# Altium schematic symbol library DC-DC Converters.SchLib: 155 symbols
Pins are listed as number, name and electrical type; pins without a type are passive.

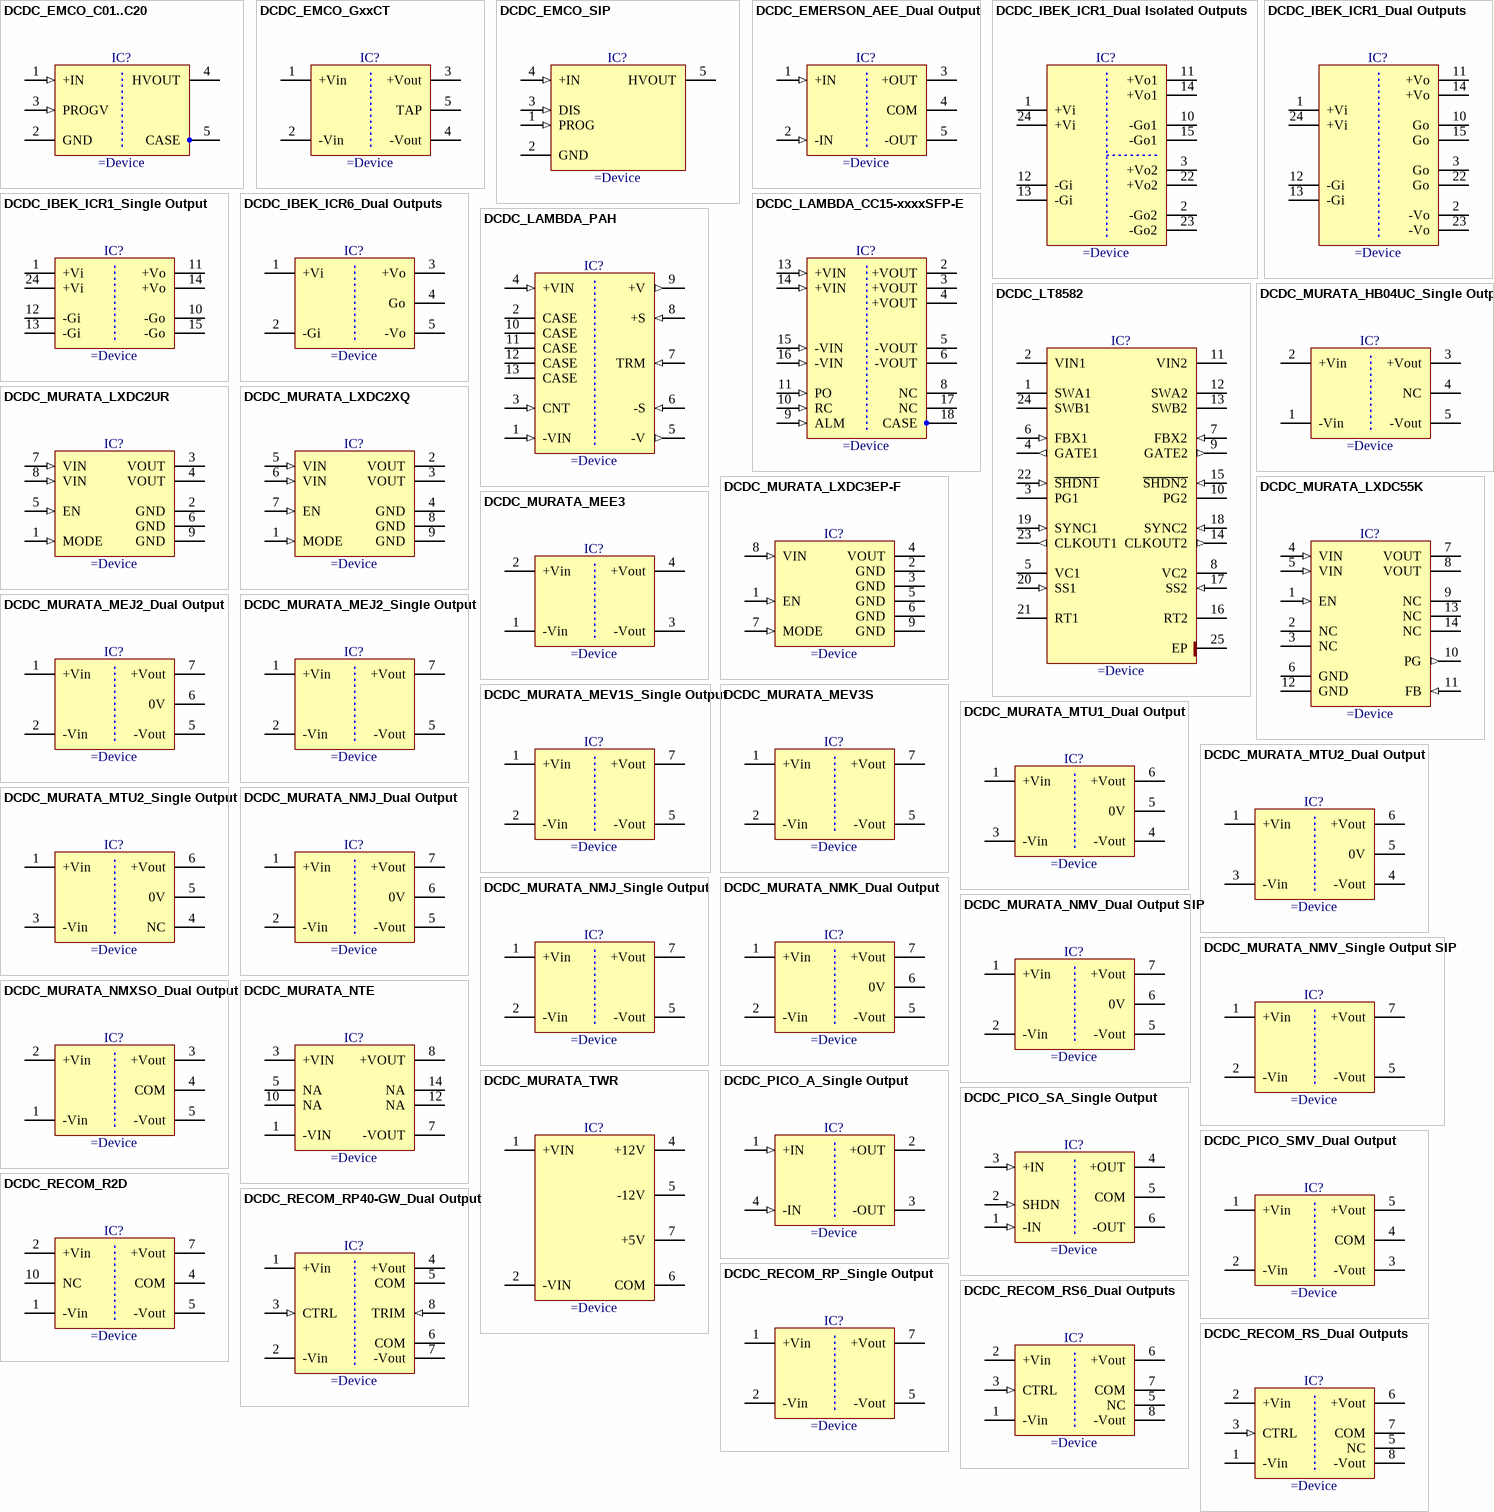
[diagram p0: symbols DCDC_EMCO_C01..C20 to DCDC_RECOM_RS_Dual Outputs]

## DCDC_EMCO_C01..C20
designator IC?
C Series, High Voltage DC-DC Converter
pins: 1 +IN (in), 2 GND (power), 3 PROGV (in), 4 HVOUT (power), 5 CASE (power)

## DCDC_EMCO_GxxCT
designator IC?
EMCO, G Series, Single Output DCDC Converter
pins: 1 +Vin (power), 2 -Vin (power), 3 +Vout (power), 4 -Vout (power), 5 TAP (power)

## DCDC_EMCO_SIP
designator IC?
SIP Series, Regulated, Low Profile High Voltage DC-DC Converter
pins: 1 PROG (in), 2 GND (power), 3 DIS (in), 4 +IN (in), 5 HVOUT (power)

## DCDC_EMERSON_AEE_Dual Output
designator IC?
EMERSON AEE 15W Serie, Dual Output DCDC Converter
pins: 1 +IN (in), 2 -IN (in), 3 +OUT (power), 4 COM (power), 5 -OUT (power)

## DCDC_IBEK_ICR1_Dual Isolated Outputs
designator IC?
IBEK, ICR1 Serie, Dual Isolated Outputs DCDC Converter
pins: 1 +Vi (power), 2 -Go2 (power), 3 +Vo2 (power), 10 -Go1 (power), 11 +Vo1 (power), 12 -Gi (power), 13 -Gi (power), 14 +Vo1 (power), 15 -Go1 (power), 22 +Vo2 (power), 23 -Go2 (power), 24 +Vi (power)

## DCDC_IBEK_ICR1_Dual Outputs
designator IC?
IBEK, ICR1 Serie, Dual Outputs DCDC Converter
pins: 1 +Vi (power), 2 -Vo (power), 3 Go (power), 10 Go (power), 11 +Vo (power), 12 -Gi (power), 13 -Gi (power), 14 +Vo (power), 15 Go (power), 22 Go (power), 23 -Vo (power), 24 +Vi (power)

## DCDC_IBEK_ICR1_Single Output
designator IC?
IBEK, ICR1 Serie, Single Output DCDC Converter
pins: 1 +Vi (power), 10 -Go (power), 11 +Vo (power), 12 -Gi (power), 13 -Gi (power), 14 +Vo (power), 15 -Go (power), 24 +Vi (power)

## DCDC_IBEK_ICR6_Dual Outputs
designator IC?
IBEK, ICR6 Serie, Dual Outputs DCDC Converter
pins: 1 +Vi (power), 2 -Gi (power), 3 +Vo (power), 4 Go (power), 5 -Vo (power)

## DCDC_LAMBDA_CC15-xxxxSFP-E
designator IC?
LAMBDA , CCP-E Series, 24V Input, 15W DCDC Converter
pins: 2 +VOUT (power) "Baseplate Terminal", 3 +VOUT (power) "On / Off Control terminal", 4 +VOUT (power) "Positive Input Terminal", 5 -VOUT (power) "Negative Output Terminal", 6 -VOUT (power) "Negative Remote sense", 8 NC "Positive Remote sense", 9 ALM (in) "Positive Output Terminal", 10 RC (in) "Baseplate Terminal", 11 PO (in) "Baseplate Terminal", 13 +VIN (in) "Baseplate Terminal", 14 +VIN (in) "Positive Output Terminal", 15 -VIN (in) "Positive Output Terminal", 16 -VIN (in) "Positive Output Terminal", 17 NC "Positive Output Terminal", 18 CASE (power) "Positive Output Terminal"

## DCDC_LAMBDA_PAH
designator IC?
LAMBDA , PAH Serie, 50W To 200W, 48V Input Half Brick DCDC Converter
pins: 1 -VIN (in) "Negative Input Terminal", 2 CASE "Baseplate Terminal", 3 CNT (in) "On / Off Control terminal", 4 +VIN (in) "Positive Input Terminal", 5 -V (out) "Negative Output Terminal", 6 -S (in) "Negative Remote sense", 7 TRM (in) "Output adjustment Trim pin", 8 +S (in) "Positive Remote sense", 9 +V (out) "Positive Output Terminal", 10 CASE "Baseplate Terminal", 11 CASE "Baseplate Terminal", 12 CASE "Baseplate Terminal", 13 CASE "Baseplate Terminal"

## DCDC_LT8582
designator IC?
Dual 3A Boost/Inverting/SEPIC DC/DC Converter with Fault Protection
pins: 1 SWA1 (power) "Master Switch Pins. This is the collector of the internal master NPN power switch for each channel. SWA is designed to handle a peak collector current of 1.7A (minimum). Minimize the metal trace area connected to this pin to (See Datasheet)", 2 VIN1 (power) "Input Supply Pins. Must be locally bypassed.", 3 PG1 (oc) "Power Good Indication Pins. This active high pin indicates that the FBX pin voltage for the corresponding channel is within 4% of its regulation voltage (VFBX > 1.15V for noninverting outputs or VFBX < 65mV for inverting (See Datasheet)", 4 GATE1 (out) "PMOS Gate Drive Pins. The GATE pin is a pull-down current source and can be used to drive the gate of an external PMOS transistor for output short-circuit protection or output disconnect. The GATE pin current increases (See Datasheet)", 5 VC1 "Error Amplifier Output Pins. Tie external compensation network to these pins.", 6 FBX1 (in) "Positive and Negative Feedback Pins. For an inverting or noninverting output converter, tie a resistor from the FBX pin to VOUT according to the following equations", 7 FBX2 (in) "Positive and Negative Feedback Pins. For an inverting or noninverting output converter, tie a resistor from the FBX pin to VOUT according to the following equations", 8 VC2 "Error Amplifier Output Pins. Tie external compensation network to these pins.", 9 GATE2 (out) "PMOS Gate Drive Pins. The GATE pin is a pull-down current source and can be used to drive the gate of an external PMOS transistor for output short-circuit protection or output disconnect. The GATE pin current increases (See Datasheet)", 10 PG2 (oc) "Power Good Indication Pins. This active high pin indicates that the FBX pin voltage for the corresponding channel is within 4% of its regulation voltage (VFBX > 1.15V for noninverting outputs or VFBX < 65mV for inverting (See Datasheet)", 11 VIN2 (power) "Input Supply Pins. Must be locally bypassed.", 12 SWA2 (power) "Master Switch Pins. This is the collector of the internal master NPN power switch for each channel. SWA is designed to handle a peak collector current of 1.7A (minimum). Minimize the metal trace area connected to this pin to (See Datasheet)", 13 SWB2 (power) "Slave Switch Pins. This is the collector of the internal slave NPN power switch for each channel. SWB is designed to handle a peak collector current of 1.3A (minimum). Minimize the metal trace area connected to this pin to (See Datasheet)", 14 CLKOUT2 (out) "Clock Output Pins. Use these pins to synchronize one or more other ICs to either channel of the LT8582. Can also be used to synchronize channel 1 or channel 2 of the LT8582 with the other channel of the LT8582. This pin (See Datasheet)", 15 ~{SHDN2} (in) "Shutdown Pins. In conjunction with the UVLO (undervoltage lockout) circuit, these pins are used to enable/disable the channel and restart the soft-start sequence. Drive below 0.3V to disable the channel with very low (See Datasheet)", 16 RT2 "Timing Resistor Pins. Adjusts the switching frequency of the corresponding channel. Place a resistor from these pins to ground to set the frequency to a fixed free running level. Do not float these pins.", 17 SS2 (in) "Soft-Start Pins. Place a softstart capacitor here. Upon start-up, the SS pins will be charged by a (nominally) 250k resistor to ~2.1V. During a fault, the SS pin for the corresponding channel will be slowly charged up and (See Datasheet)", 18 SYNC2 (in) "Use to synchronize the switching frequency of a channel to an outside clock. The high voltage level of the clock must exceed 1.3V and the low level must be less than 0.4V. Drive these pins to less than 0.4V to revert to the (See Datasheet)", 19 SYNC1 (in) "Use to synchronize the switching frequency of a channel to an outside clock. The high voltage level of the clock must exceed 1.3V and the low level must be less than 0.4V. Drive these pins to less than 0.4V to revert to the (See Datasheet)", 20 SS1 (in) "Soft-Start Pins. Place a softstart capacitor here. Upon start-up, the SS pins will be charged by a (nominally) 250k resistor to ~2.1V. During a fault, the SS pin for the corresponding channel will be slowly charged up and (See Datasheet)", 21 RT1 "Timing Resistor Pins. Adjusts the switching frequency of the corresponding channel. Place a resistor from these pins to ground to set the frequency to a fixed free running level. Do not float these pins.", 22 ~{SHDN1} (in) "Shutdown Pins. In conjunction with the UVLO (undervoltage lockout) circuit, these pins are used to enable/disable the channel and restart the soft-start sequence. Drive below 0.3V to disable the channel with very low (See Datasheet)", 23 CLKOUT1 (out) "Clock Output Pins. Use these pins to synchronize one or more other ICs to either channel of the LT8582. Can also be used to synchronize channel 1 or channel 2 of the LT8582 with the other channel of the LT8582. This pin (See Datasheet)", 24 SWB1 (power) "Slave Switch Pins. This is the collector of the internal slave NPN power switch for each channel. SWB is designed to handle a peak collector current of 1.3A (minimum). Minimize the metal trace area connected to this pin to (See Datasheet)", 25 EP (power) "Ground. Exposed pad must be soldered directly to local ground plane."

## DCDC_MURATA_HB04UC_Single Output
designator IC?
4W Unregulated High Isolation DC-DC Converter
pins: 1 -Vin (power), 2 +Vin (power), 3 +Vout (power), 4 NC (power), 5 -Vout (power)

## DCDC_MURATA_LXDC2UR
designator IC?
Step-Down DC-DC Converter
pins: 1 MODE (in), 2 GND (power), 3 VOUT (power), 4 VOUT (power), 5 EN (in), 6 GND (power), 7 VIN (in), 8 VIN (in), 9 GND (power)

## DCDC_MURATA_LXDC2XQ
designator IC?
Step-Down DC-DC Converter
pins: 1 MODE (in), 2 VOUT (power), 3 VOUT (power), 4 GND (power), 5 VIN (in), 6 VIN (in), 7 EN (in), 8 GND (power), 9 GND (power)

## DCDC_MURATA_LXDC3EP-F
designator IC?
Step-Down DC-DC Converter
pins: 1 EN (in), 2 GND (power), 3 GND (power), 4 VOUT (power), 5 GND (power), 6 GND (power), 7 MODE (in), 8 VIN (in), 9 GND (power)

## DCDC_MURATA_LXDC55K
designator IC?
Step-Down DC-DC Converter
pins: 1 EN (in), 2 NC, 3 NC, 4 VIN (in), 5 VIN (in), 6 GND (power), 7 VOUT (power), 8 VOUT (power), 9 NC, 10 PG (out), 11 FB (in), 12 GND (power), 13 NC, 14 NC

## DCDC_MURATA_MEE3
designator IC?
1kV Isolated 3W Single Output DC-DC Converter
pins: 1 -Vin (power), 2 +Vin (power), 3 -Vout (power), 4 +Vout (power)

## DCDC_MURATA_MEJ2_Dual Output
designator IC?
MURATA, MEJ2 Serie, Dual Output DCDC Converter
pins: 1 +Vin (power), 2 -Vin (power), 5 -Vout (power), 6 0V (power), 7 +Vout (power)

## DCDC_MURATA_MEJ2_Single Output
designator IC?
MURATA, MEJ2 Series, Single Output DCDC Converter
pins: 1 +Vin (power), 2 -Vin (power), 5 -Vout (power), 7 +Vout (power)

## DCDC_MURATA_MEV1S_Single Output
designator IC?
MURATA, MEV3S Serie DCDC Converter
pins: 1 +Vin (power), 2 -Vin (power), 5 -Vout (power), 7 +Vout (power)

## DCDC_MURATA_MEV3S
designator IC?
MURATA, MEV3S Serie DCDC Converter
pins: 1 +Vin (power), 2 -Vin (power), 5 -Vout (power), 7 +Vout (power)

## DCDC_MURATA_MTU1_Dual Output
designator IC?
MURATA, MTU1 Serie, Dual Output DCDC Converter
pins: 1 +Vin (power), 3 -Vin (power), 4 -Vout (power), 5 0V (power), 6 +Vout (power)

## DCDC_MURATA_MTU2_Dual Output
designator IC?
MURATA, MTU2 Serie, Dual Output DCDC Converter
pins: 1 +Vin (power), 3 -Vin (power), 4 -Vout (power), 5 0V (power), 6 +Vout (power)

## DCDC_MURATA_MTU2_Single Output
designator IC?
MURATA, MTU2 Serie, Dual Output DCDC Converter
pins: 1 +Vin (power), 3 -Vin (power), 4 NC, 5 0V (power), 6 +Vout (power)

## DCDC_MURATA_NMJ_Dual Output
designator IC?
MURATA, NMJ Serie, Dual Output DCDC Converter
pins: 1 +Vin (power), 2 -Vin (power), 5 -Vout (power), 6 0V (power), 7 +Vout (power)

## DCDC_MURATA_NMJ_Single Output
designator IC?
MURATA, NMJ Serie, Single Output DCDC Converter
pins: 1 +Vin (power), 2 -Vin (power), 5 -Vout (power), 7 +Vout (power)

## DCDC_MURATA_NMK_Dual Output
designator IC?
MURATA, NMK Serie, Dual Output DCDC Converter
pins: 1 +Vin (power), 2 -Vin (power), 5 -Vout (power), 6 0V (power), 7 +Vout (power)

## DCDC_MURATA_NMV_Dual Output SIP
designator IC?
MURATA, NMV Serie, Dual Output DCDC Converter
pins: 1 +Vin (power), 2 -Vin (power), 5 -Vout (power), 6 0V (power), 7 +Vout (power)

## DCDC_MURATA_NMV_Single Output SIP
designator IC?
MURATA, NMV Serie, Single Output DCDC Converter
pins: 1 +Vin (power), 2 -Vin (power), 5 -Vout (power), 7 +Vout (power)

## DCDC_MURATA_NMXSO_Dual Output
designator IC?
Isolated 5W Regulated Single & Dual Output DC-DC Converter
pins: 1 -Vin (power), 2 +Vin (power), 3 +Vout (power), 4 COM (power), 5 -Vout (power)

## DCDC_MURATA_NTE
designator IC?
NTE Series, DC-DC Converter
pins: 1 -VIN (power), 3 +VIN (power), 5 NA, 7 -VOUT (power), 8 +VOUT (power), 10 NA, 12 NA, 14 NA

## DCDC_MURATA_TWR
designator IC?
High-Reliability, 2" x 1", 8-11 W, Triple Output DC/DC Converters
pins: 1 +VIN (power), 2 -VIN (power), 4 +12V (power), 5 -12V (power), 6 COM (power), 7 +5V (power)

## DCDC_PICO_A_Single Output
designator IC?
PICO, A Serie, Single Output DCDC Converter
pins: 1 +IN (in), 2 +OUT (power), 3 -OUT (power), 4 -IN (in)

## DCDC_PICO_SA_Single Output
designator IC?
PICO, SA Serie, Single Output DCDC Converter
pins: 1 -IN (in), 2 SHDN (in), 3 +IN (in), 4 +OUT (power), 5 COM (power), 6 -OUT (power)

## DCDC_PICO_SMV_Dual Output
designator IC?
PICO, SMV Serie, Dual Output DCDC Converter
pins: 1 +Vin (power), 2 -Vin (power), 3 -Vout (power), 4 COM (power), 5 +Vout (power)

## DCDC_RECOM_R2D
designator IC?
RECOM, R2D Series, Dual Output DCDC Converter
pins: 1 -Vin (power), 2 +Vin (power), 4 COM (power), 5 -Vout (power), 7 +Vout (power), 10 NC

## DCDC_RECOM_RP40-GW_Dual Output
designator IC?
RECOM RP40-GW Series, Dual Output DCDC Converter
pins: 1 +Vin (power), 2 -Vin (power), 3 CTRL (in), 4 +Vout (power), 5 COM (power), 6 COM (power), 7 -Vout (power), 8 TRIM (in)

## DCDC_RECOM_RP_Single Output
designator IC?
RECOM, RP Series, Single Output DCDC Converter
pins: 1 +Vin (power), 2 -Vin (power), 5 -Vout (power), 7 +Vout (power)

## DCDC_RECOM_RS6_Dual Outputs
designator IC?
RECOM, RS6 Series, Dual Output DCDC Converter
pins: 1 -Vin (power), 2 +Vin (power), 3 CTRL (in), 5 NC, 6 +Vout (power), 7 COM (power), 8 -Vout (power)

## DCDC_RECOM_RS_Dual Outputs
designator IC?
RECOM, RS Series, Dual Output DCDC Converter
pins: 1 -Vin (power), 2 +Vin (power), 3 CTRL (in), 5 NC, 6 +Vout (power), 7 COM (power), 8 -Vout (power)

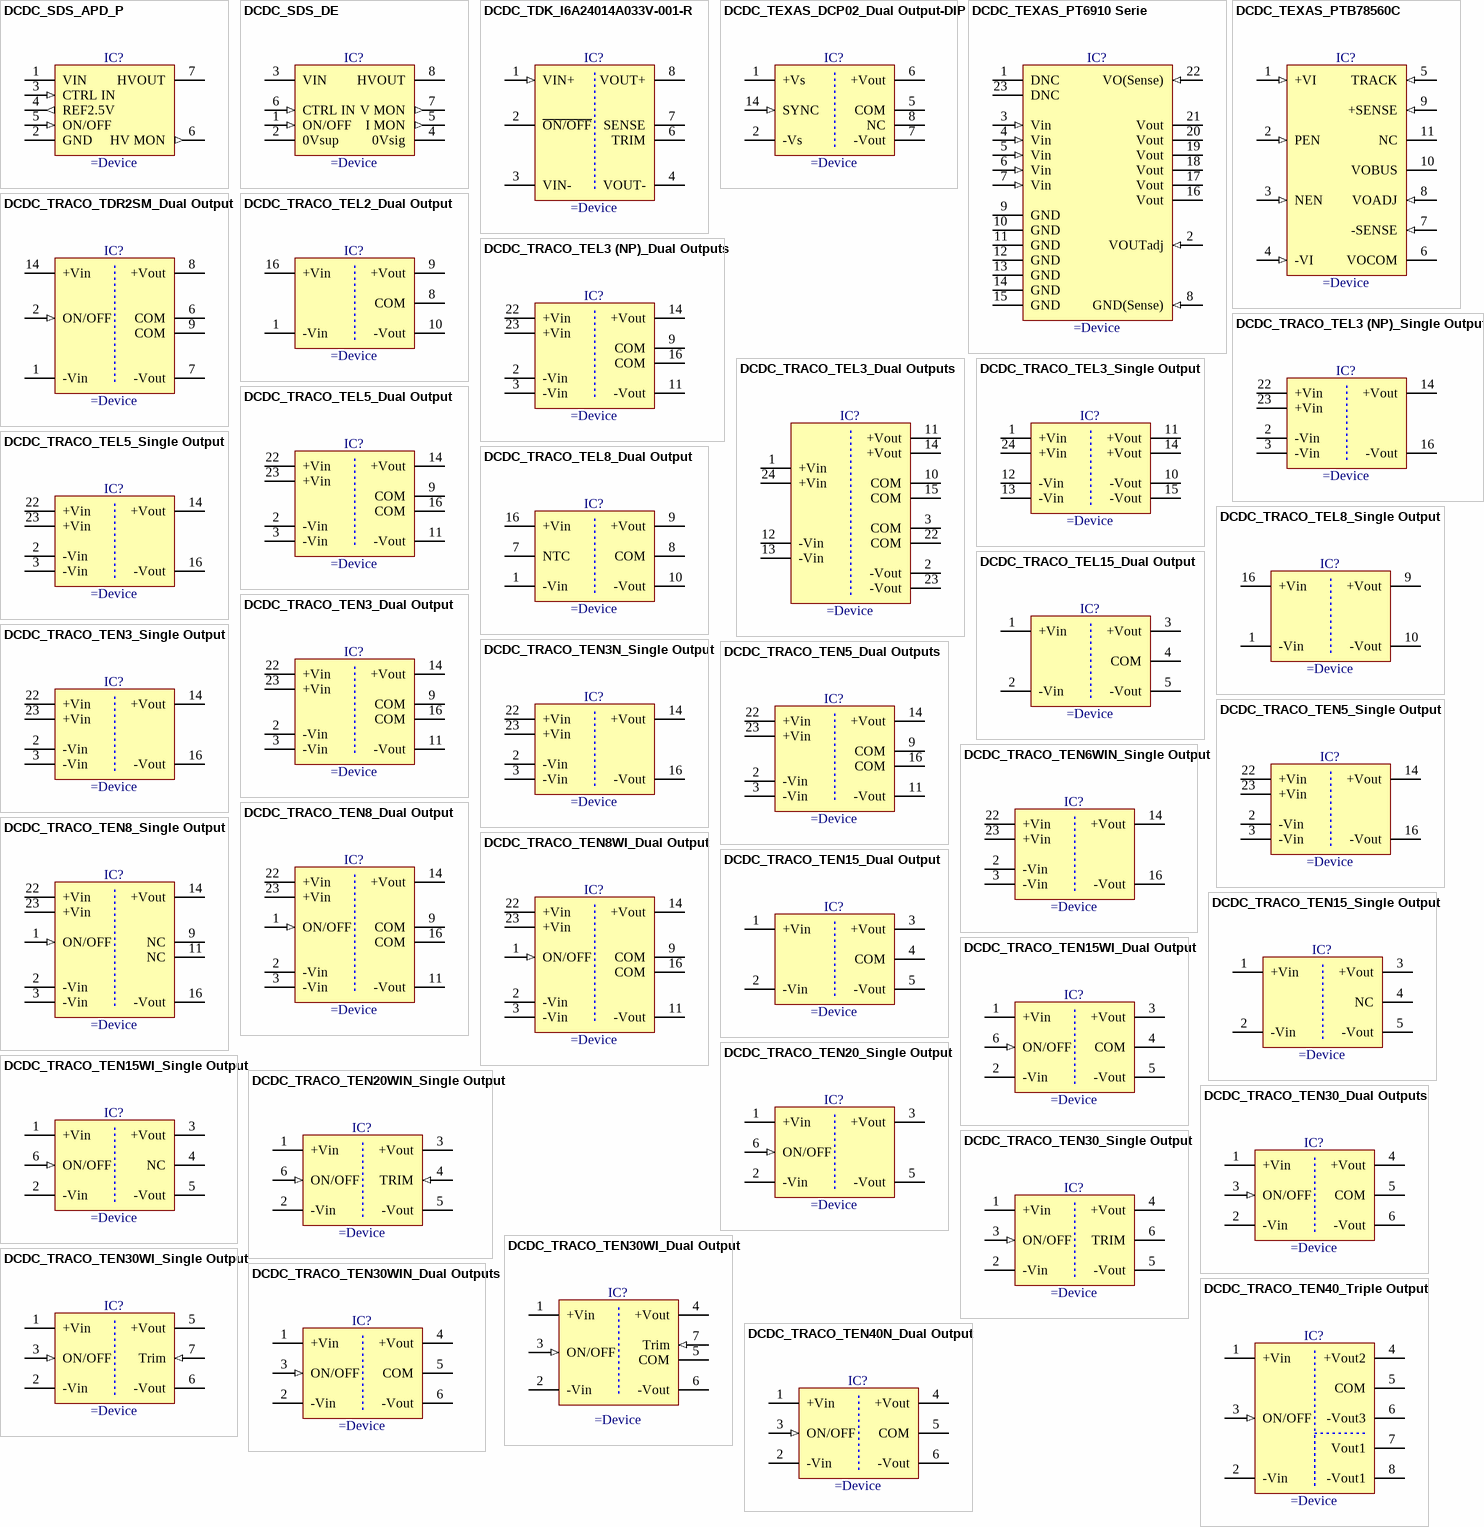
[diagram p1: symbols DCDC_SDS_APD_P to DCDC_TRACO_TEN40N_Dual Output]

## DCDC_SDS_APD_P
designator IC?
SDS, APD Serie, High Voltage DC-DC Converter
pins: 1 VIN (power), 2 GND (power), 3 CTRL IN (in), 4 REF2.5V (out), 5 ON/OFF (in), 6 HV MON (out), 7 HVOUT (power)

## DCDC_SDS_DE
designator IC?
SDS, DE Serie, High Voltage DC-DC Converter
pins: 1 ON/OFF (in), 2 0Vsup (power), 3 VIN (power), 4 0Vsig (power), 5 I MON (out), 6 CTRL IN (in), 7 V MON (out), 8 HVOUT (power)

## DCDC_TDK_I6A24014A033V-001-R
designator IC?
TDK, i6A Series, 250W, 9-40V Input, 3.3 to 24V Output, Non-isolated DC-DC Converter
pins: 1 VIN+ (in), 2 ~{ON/OFF} (power), 3 VIN- (power), 4 VOUT-, 6 TRIM (power), 7 SENSE (power), 8 VOUT+ (power)

## DCDC_TEXAS_DCP02_Dual Output-DIP
designator IC?
2W, Isolated, Unregulated DC/DC converter Modules
pins: 1 +Vs (power), 2 -Vs (power), 5 COM (power), 6 +Vout (power), 7 -Vout (power), 8 NC, 14 SYNC (in)

## DCDC_TEXAS_PT6910 Serie
designator IC?
12 Watt 5V/3.3V Input Plus to Minus Voltage Converter
pins: 1 DNC, 2 VOUTadj (in), 3 Vin (in), 4 Vin (in), 5 Vin (in), 6 Vin (in), 7 Vin (in), 8 GND(Sense) (in), 9 GND (power), 10 GND (power), 11 GND (power), 12 GND (power), 13 GND (power), 14 GND (power), 15 GND (power), 16 Vout (power), 17 Vout (power), 18 Vout (power), 19 Vout (power), 20 Vout (power), 21 Vout (power), 22 VO(Sense) (in), 23 DNC

## DCDC_TEXAS_PTB78560C
designator IC?
30W DC-DC Converter
pins: 1 +VI (in), 2 PEN (in), 3 NEN (in), 4 -VI (in), 5 TRACK (in), 6 VOCOM (power), 7 -SENSE (in), 8 VOADJ (in), 9 +SENSE (in), 10 VOBUS (power), 11 NC

## DCDC_TRACO_TDR2SM_Dual Output
designator IC?
TRACO, TDR 2 SM Serie, Dual Output DCDC Converter
pins: 1 -Vin (power), 2 ON/OFF (in), 6 COM (power), 7 -Vout (power), 8 +Vout (power), 9 COM (power), 14 +Vin (power)

## DCDC_TRACO_TEL2_Dual Output
designator IC?
TRACO, TEL2 Serie, Dual Output DCDC Converter
pins: 1 -Vin (power), 8 COM (power), 9 +Vout (power), 10 -Vout (power), 16 +Vin (power)

## DCDC_TRACO_TEL3 (NP)_Dual Outputs
designator IC?
TRACO, TEL3 Serie, NP Pinout, Dual Outputs DCDC Converter
pins: 2 -Vin (power), 3 -Vin (power), 9 COM (power), 11 -Vout (power), 14 +Vout (power), 16 COM (power), 22 +Vin (power), 23 +Vin (power)

## DCDC_TRACO_TEL3 (NP)_Single Output
designator IC?
TRACO, TEL3 Serie, NP Pinout, Single Output DCDC Converter
pins: 2 -Vin (power), 3 -Vin (power), 14 +Vout (power), 16 -Vout (power), 22 +Vin (power), 23 +Vin (power)

## DCDC_TRACO_TEL3_Dual Outputs
designator IC?
TRACO, TEL3 Serie, Dual Outputs DCDC Converter
pins: 1 +Vin (power), 2 -Vout (power), 3 COM (power), 10 COM (power), 11 +Vout (power), 12 -Vin (power), 13 -Vin (power), 14 +Vout (power), 15 COM (power), 22 COM (power), 23 -Vout (power), 24 +Vin (power)

## DCDC_TRACO_TEL3_Single Output
designator IC?
TRACO, TEL3 Serie, Single Output DCDC Converter
pins: 1 +Vin (power), 10 -Vout (power), 11 +Vout (power), 12 -Vin (power), 13 -Vin (power), 14 +Vout (power), 15 -Vout (power), 24 +Vin (power)

## DCDC_TRACO_TEL5_Dual Output
designator IC?
TRACO, TEL5 Serie, Dual Output DCDC Converter
pins: 2 -Vin (power), 3 -Vin (power), 9 COM (power), 11 -Vout (power), 14 +Vout (power), 16 COM (power), 22 +Vin (power), 23 +Vin (power)

## DCDC_TRACO_TEL5_Single Output
designator IC?
TRACO, TEL5 Serie, Single Output DCDC Converter
pins: 2 -Vin (power), 3 -Vin (power), 14 +Vout (power), 16 -Vout (power), 22 +Vin (power), 23 +Vin (power)

## DCDC_TRACO_TEL8_Dual Output
designator IC?
TRACO, TEN Serie, Dual Output DCDC Converter
pins: 1 -Vin (power), 7 NTC, 8 COM (power), 9 +Vout (power), 10 -Vout (power), 16 +Vin (power)

## DCDC_TRACO_TEL8_Single Output
designator IC?
TRACO, TEN Serie, Single Output DCDC Converter
pins: 1 -Vin (power), 9 +Vout (power), 10 -Vout (power), 16 +Vin (power)

## DCDC_TRACO_TEL15_Dual Output
designator IC?
TRACO, TEL15 Series, Dual Output DCDC Converter
pins: 1 +Vin (power), 2 -Vin (power), 3 +Vout (power), 4 COM (power), 5 -Vout (power)

## DCDC_TRACO_TEN3_Dual Output
designator IC?
TRACO, TEN3 Series, Dual Output DCDC Converter
pins: 2 -Vin (power), 3 -Vin (power), 9 COM (power), 11 -Vout (power), 14 +Vout (power), 16 COM (power), 22 +Vin (power), 23 +Vin (power)

## DCDC_TRACO_TEN3_Single Output
designator IC?
TRACO, TEN3 Series, Single Output DCDC Converter
pins: 2 -Vin (power), 3 -Vin (power), 14 +Vout (power), 16 -Vout (power), 22 +Vin (power), 23 +Vin (power)

## DCDC_TRACO_TEN3N_Single Output
designator IC?
TRACO, TEN3N Series, Single Output DCDC Converter
pins: 2 -Vin (power), 3 -Vin (power), 14 +Vout (power), 16 -Vout (power), 22 +Vin (power), 23 +Vin (power)

## DCDC_TRACO_TEN5_Dual Outputs
designator IC?
TRACO, TEN5 Series, Dual Outputs DCDC Converter
pins: 2 -Vin (power), 3 -Vin (power), 9 COM (power), 11 -Vout (power), 14 +Vout (power), 16 COM (power), 22 +Vin (power), 23 +Vin (power)

## DCDC_TRACO_TEN5_Single Output
designator IC?
TRACO, TEN5 Series, Single Output DCDC Converter
pins: 2 -Vin (power), 3 -Vin (power), 14 +Vout (power), 16 -Vout (power), 22 +Vin (power), 23 +Vin (power)

## DCDC_TRACO_TEN6WIN_Single Output
designator IC?
TRACO, TEN6WIN Series, Single Output DCDC Converter
pins: 2 -Vin (power), 3 -Vin (power), 14 +Vout (power), 16 -Vout (power), 22 +Vin (power), 23 +Vin (power)

## DCDC_TRACO_TEN8_Dual Output
designator IC?
TRACO, TEN Series, Dual Output DCDC Converter
pins: 1 ON/OFF (in), 2 -Vin (power), 3 -Vin (power), 9 COM (power), 11 -Vout (power), 14 +Vout (power), 16 COM (power), 22 +Vin (power), 23 +Vin (power)

## DCDC_TRACO_TEN8_Single Output
designator IC?
TRACO, TEN Series, Single Output DCDC Converter
pins: 1 ON/OFF (in), 2 -Vin (power), 3 -Vin (power), 9 NC, 11 NC, 14 +Vout (power), 16 -Vout (power), 22 +Vin (power), 23 +Vin (power)

## DCDC_TRACO_TEN8WI_Dual Output
designator IC?
TRACO, TEN 8 WI Series, Dual Output DCDC Converter
pins: 1 ON/OFF (in), 2 -Vin (power), 3 -Vin (power), 9 COM (power), 11 -Vout (power), 14 +Vout (power), 16 COM (power), 22 +Vin (power), 23 +Vin (power)

## DCDC_TRACO_TEN15_Dual Output
designator IC?
TRACO, TEN15 Series, Dual Output DCDC Converter
pins: 1 +Vin (power), 2 -Vin (power), 3 +Vout (power), 4 COM (power), 5 -Vout (power)

## DCDC_TRACO_TEN15_Single Output
designator IC?
TRACO, TEN15 Series, Single Output DCDC Converter
pins: 1 +Vin (power), 2 -Vin (power), 3 +Vout (power), 4 NC (power), 5 -Vout (power)

## DCDC_TRACO_TEN15WI_Dual Output
designator IC?
TRACO, TEN15WI Series, Dual Output DCDC Converter
pins: 1 +Vin (power), 2 -Vin (power), 3 +Vout (power), 4 COM (power), 5 -Vout (power), 6 ON/OFF (in)

## DCDC_TRACO_TEN15WI_Single Output
designator IC?
TRACO, TEN15WI Series, Single Output DCDC Converter
pins: 1 +Vin (power), 2 -Vin (power), 3 +Vout (power), 4 NC (power), 5 -Vout (power), 6 ON/OFF (in)

## DCDC_TRACO_TEN20_Single Output
designator IC?
TRACO, TEN20 Series, Single Output DCDC Converter
pins: 1 +Vin (power), 2 -Vin (power), 3 +Vout (power), 5 -Vout (power), 6 ON/OFF (in)

## DCDC_TRACO_TEN20WIN_Single Output
designator IC?
TRACO, TEN20WIN Series, Single Output DCDC Converter
pins: 1 +Vin (power), 2 -Vin (power), 3 +Vout (power), 4 TRIM (in), 5 -Vout (power), 6 ON/OFF (in)

## DCDC_TRACO_TEN30_Dual Outputs
designator IC?
TRACO, TEN30 Series, Dual Outputs DCDC Converter
pins: 1 +Vin (power), 2 -Vin (power), 3 ON/OFF (in), 4 +Vout (power), 5 COM (power), 6 -Vout (power)

## DCDC_TRACO_TEN30_Single Output
designator IC?
TRACO, TEN30 Series, Single Output DCDC Converter
pins: 1 +Vin (power), 2 -Vin (power), 3 ON/OFF (in), 4 +Vout (power), 5 -Vout (power), 6 TRIM (power)

## DCDC_TRACO_TEN30WI_Dual Output
designator IC?
TRACO, TEN30WI Series, Dual Outputs DCDC Converter
pins: 1 +Vin (power), 2 -Vin (power), 3 ON/OFF (in), 4 +Vout (power), 5 COM (power), 6 -Vout (power), 7 Trim (in)

## DCDC_TRACO_TEN30WI_Single Output
designator IC?
TRACO, TEN30WI Series, Single Outputs DCDC Converter
pins: 1 +Vin (power), 2 -Vin (power), 3 ON/OFF (in), 5 +Vout (power), 6 -Vout (power), 7 Trim (in)

## DCDC_TRACO_TEN30WIN_Dual Outputs
designator IC?
TRACO, TEN30WIN Series, Dual Outputs DCDC Converter
pins: 1 +Vin (power), 2 -Vin (power), 3 ON/OFF (in), 4 +Vout (power), 5 COM (power), 6 -Vout (power)

## DCDC_TRACO_TEN40_Triple Output
designator IC?
TRACO, TEN40 Series, Triple Output DCDC Converter
pins: 1 +Vin (power), 2 -Vin (power), 3 ON/OFF (in), 4 +Vout2 (power), 5 COM (power), 6 -Vout3 (power), 7 Vout1 (power), 8 -Vout1 (power)

## DCDC_TRACO_TEN40N_Dual Output
designator IC?
TRACO, TEN40N Series, Dual Output DCDC Converter
pins: 1 +Vin (power), 2 -Vin (power), 3 ON/OFF (in), 4 +Vout (power), 5 COM (power), 6 -Vout (power)

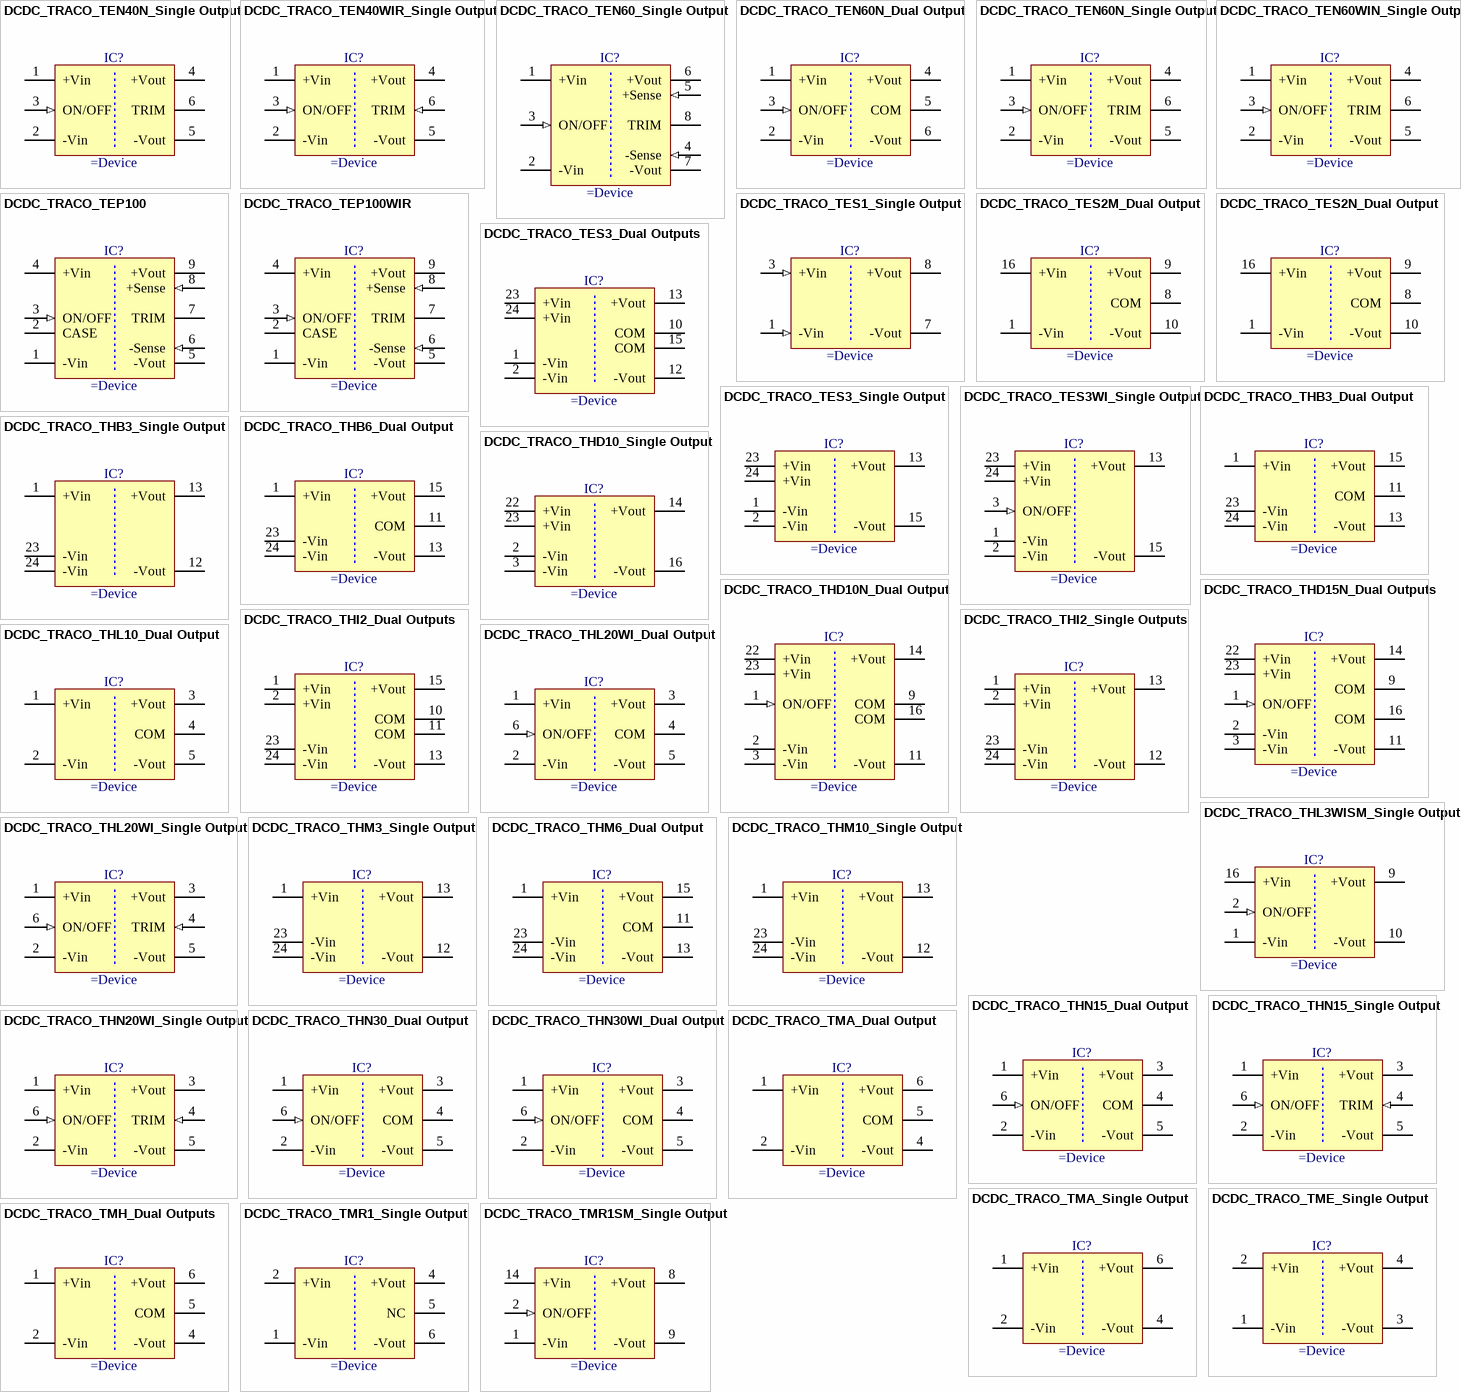
[diagram p2: symbols DCDC_TRACO_TEN40N_Single Output to DCDC_TRACO_TMR1SM_Single Output]

## DCDC_TRACO_TEN40N_Single Output
designator IC?
TRACO, TEN40N Series, Single Output DCDC Converter
pins: 1 +Vin (power), 2 -Vin (power), 3 ON/OFF (in), 4 +Vout (power), 5 -Vout (power), 6 TRIM (power)

## DCDC_TRACO_TEN40WIR_Single Output
designator IC?
TRACO, TEN40WIR Series, Single Output DCDC Converter
pins: 1 +Vin (power), 2 -Vin (power), 3 ON/OFF (in), 4 +Vout (power), 5 -Vout (power), 6 TRIM (in)

## DCDC_TRACO_TEN60_Single Output
designator IC?
TRACO, TEN60 Series, Single Output DCDC Converter
pins: 1 +Vin (power), 2 -Vin (power), 3 ON/OFF (in), 4 -Sense (in), 5 +Sense (in), 6 +Vout (power), 7 -Vout (power), 8 TRIM (power)

## DCDC_TRACO_TEN60N_Dual Output
designator IC?
TRACO, TEN60N Series, Dual Output DCDC Converter
pins: 1 +Vin (power), 2 -Vin (power), 3 ON/OFF (in), 4 +Vout (power), 5 COM (power), 6 -Vout (power)

## DCDC_TRACO_TEN60N_Single Output
designator IC?
TRACO, TEN60N Series, Single Output DCDC Converter
pins: 1 +Vin (power), 2 -Vin (power), 3 ON/OFF (in), 4 +Vout (power), 5 -Vout (power), 6 TRIM (power)

## DCDC_TRACO_TEN60WIN_Single Output
designator IC?
TRACO, TEN60WIN Series, Single Output DCDC Converter
pins: 1 +Vin (power), 2 -Vin (power), 3 ON/OFF (in), 4 +Vout (power), 5 -Vout (power), 6 TRIM (power)

## DCDC_TRACO_TEP100
designator IC?
TRACO, TEP 100 Series, Single Output DCDC Converter
pins: 1 -Vin (power), 2 CASE (power), 3 ON/OFF (in), 4 +Vin (power), 5 -Vout (power), 6 -Sense (in), 7 TRIM (power), 8 +Sense (in), 9 +Vout (power), 10 Mech (power) hidden

## DCDC_TRACO_TEP100WIR
designator IC?
TRACO, TEP 100WIR Series, Single Output DCDC Converter
pins: 1 -Vin (power), 2 CASE (power), 3 ON/OFF (in), 4 +Vin (power), 5 -Vout (power), 6 -Sense (in), 7 TRIM (power), 8 +Sense (in), 9 +Vout (power)

## DCDC_TRACO_TES1_Single Output
designator IC?
TRACO, TES1 Serie, Single Output DCDC Converter
pins: 1 -Vin (in), 3 +Vin (in), 7 -Vout (power), 8 +Vout (power)

## DCDC_TRACO_TES2M_Dual Output
designator IC?
TRACO, TES 2M Serie, Dual Output DCDC Converter
pins: 1 -Vin (power), 8 COM (power), 9 +Vout (power), 10 -Vout (power), 16 +Vin (power)

## DCDC_TRACO_TES2N_Dual Output
designator IC?
TRACO, TES 2N Serie, Dual Output DCDC Converter
pins: 1 -Vin (power), 8 COM (power), 9 +Vout (power), 10 -Vout (power), 16 +Vin (power)

## DCDC_TRACO_TES3_Dual Outputs
designator IC?
TRACO, TES3 Serie, Dual Outputs DCDC Converter
pins: 1 -Vin (power), 2 -Vin (power), 10 COM (power), 12 -Vout (power), 13 +Vout (power), 15 COM (power), 23 +Vin (power), 24 +Vin (power)

## DCDC_TRACO_TES3_Single Output
designator IC?
TRACO, TES3 Serie, Single Output DCDC Converter
pins: 1 -Vin (power), 2 -Vin (power), 13 +Vout (power), 15 -Vout (power), 23 +Vin (power), 24 +Vin (power)

## DCDC_TRACO_TES3WI_Single Output
designator IC?
TRACO, TES3WI Series, Single Output DCDC Converter
pins: 1 -Vin (power), 2 -Vin (power), 3 ON/OFF (in), 13 +Vout (power), 15 -Vout (power), 23 +Vin (power), 24 +Vin (power)

## DCDC_TRACO_THB3_Dual Output
designator IC?
TRACO, THB 3 Serie, Dual Outputs DCDC Converter
pins: 1 +Vin (power), 11 COM (power), 13 -Vout (power), 15 +Vout (power), 23 -Vin (power), 24 -Vin (power)

## DCDC_TRACO_THB3_Single Output
designator IC?
TRACO, THB 3 Serie, Single Outputs DCDC Converter
pins: 1 +Vin (power), 12 -Vout (power), 13 +Vout (power), 23 -Vin (power), 24 -Vin (power)

## DCDC_TRACO_THB6_Dual Output
designator IC?
TRACO, THB 6 Serie, Dual Outputs DCDC Converter
pins: 1 +Vin (power), 11 COM (power), 13 -Vout (power), 15 +Vout (power), 23 -Vin (power), 24 -Vin (power)

## DCDC_TRACO_THD10_Single Output
designator IC?
TRACO, THD10 Series, Single Output DCDC Converter
pins: 2 -Vin (power), 3 -Vin (power), 14 +Vout (power), 16 -Vout (power), 22 +Vin (power), 23 +Vin (power)

## DCDC_TRACO_THD10N_Dual Output
designator IC?
TRACO, TEN 10 N Series, Dual Output DCDC Converter
pins: 1 ON/OFF (in), 2 -Vin (power), 3 -Vin (power), 9 COM (power), 11 -Vout (power), 14 +Vout (power), 16 COM (power), 22 +Vin (power), 23 +Vin (power)

## DCDC_TRACO_THD15N_Dual Outputs
designator IC?
TRACO, THD 15N Series, Dual Outputs DCDC Converter
pins: 1 ON/OFF (in), 2 -Vin (power), 3 -Vin (power), 9 COM (power), 11 -Vout (power), 14 +Vout (power), 16 COM (power), 22 +Vin (power), 23 +Vin (power)

## DCDC_TRACO_THI2_Dual Outputs
designator IC?
TRACO, THI Serie, Dual Outputs DCDC Converter
pins: 1 +Vin (power), 2 +Vin (power), 10 COM (power), 11 COM (power), 13 -Vout (power), 15 +Vout (power), 23 -Vin (power), 24 -Vin (power)

## DCDC_TRACO_THI2_Single Outputs
designator IC?
TRACO, THI Serie, Single Outputs DCDC Converter
pins: 1 +Vin (power), 2 +Vin (power), 12 -Vout (power), 13 +Vout (power), 23 -Vin (power), 24 -Vin (power)

## DCDC_TRACO_THL3WISM_Single Output
designator IC?
TRACO, THL 3 WISM Series, Single Output DCDC Converter
pins: 1 -Vin (power), 2 ON/OFF (in), 9 +Vout (power), 10 -Vout (power), 16 +Vin (power)

## DCDC_TRACO_THL10_Dual Output
designator IC?
TRACO, THL 10 Series, Dual Outputs DCDC Converter
pins: 1 +Vin (power), 2 -Vin (power), 3 +Vout (power), 4 COM (power), 5 -Vout (power)

## DCDC_TRACO_THL20WI_Dual Output
designator IC?
TRACO, THL 20WI Series, Dual Outputs DCDC Converter
pins: 1 +Vin (power), 2 -Vin (power), 3 +Vout (power), 4 COM (power), 5 -Vout (power), 6 ON/OFF (in)

## DCDC_TRACO_THL20WI_Single Output
designator IC?
TRACO, THL 20WI Series, Single Outputs DCDC Converter
pins: 1 +Vin (power), 2 -Vin (power), 3 +Vout (power), 4 TRIM (in), 5 -Vout (power), 6 ON/OFF (in)

## DCDC_TRACO_THM3_Single Output
designator IC?
TRACO, THM 3 Series, Single Output DCDC Converter
pins: 1 +Vin (power), 12 -Vout (power), 13 +Vout (power), 23 -Vin (power), 24 -Vin (power)

## DCDC_TRACO_THM6_Dual Output
designator IC?
TRACO, THM 6 Series, Dual Output DCDC Converter
pins: 1 +Vin (power), 11 COM (power), 13 -Vout (power), 15 +Vout (power), 23 -Vin (power), 24 -Vin (power)

## DCDC_TRACO_THM10_Single Output
designator IC?
TRACO, THM 10 Serie, Single Output DCDC Converter
pins: 1 +Vin (power), 12 -Vout (power), 13 +Vout (power), 23 -Vin (power), 24 -Vin (power)

## DCDC_TRACO_THN15_Dual Output
designator IC?
TRACO, THN15 Series, Dual Outputs DCDC Converter
pins: 1 +Vin (power), 2 -Vin (power), 3 +Vout (power), 4 COM (power), 5 -Vout (power), 6 ON/OFF (in)

## DCDC_TRACO_THN15_Single Output
designator IC?
TRACO, THN15 Series, Single Outputs DCDC Converter
pins: 1 +Vin (power), 2 -Vin (power), 3 +Vout (power), 4 TRIM (in), 5 -Vout (power), 6 ON/OFF (in)

## DCDC_TRACO_THN20WI_Single Output
designator IC?
TRACO, THN20WI Series, Single Outputs DCDC Converter
pins: 1 +Vin (power), 2 -Vin (power), 3 +Vout (power), 4 TRIM (in), 5 -Vout (power), 6 ON/OFF (in)

## DCDC_TRACO_THN30_Dual Output
designator IC?
TRACO, THN30 Series, Dual Outputs DCDC Converter
pins: 1 +Vin (power), 2 -Vin (power), 3 +Vout (power), 4 COM (power), 5 -Vout (power), 6 ON/OFF (in)

## DCDC_TRACO_THN30WI_Dual Output
designator IC?
TRACO, THN30 Series, Dual Outputs DCDC Converter
pins: 1 +Vin (power), 2 -Vin (power), 3 +Vout (power), 4 COM (power), 5 -Vout (power), 6 ON/OFF (in)

## DCDC_TRACO_TMA_Dual Output
designator IC?
TRACO, TMA Serie, Dual Output DCDC Converter
pins: 1 +Vin (power), 2 -Vin (power), 4 -Vout (power), 5 COM (power), 6 +Vout (power)

## DCDC_TRACO_TMA_Single Output
designator IC?
TRACO, TMA Serie, Single Output DCDC Converter
pins: 1 +Vin (power), 2 -Vin (power), 4 -Vout (power), 6 +Vout (power)

## DCDC_TRACO_TME_Single Output
designator IC?
TRACO, TME Serie, Single Output DCDC Converter
pins: 1 -Vin (power), 2 +Vin (power), 3 -Vout (power), 4 +Vout (power)

## DCDC_TRACO_TMH_Dual Outputs
designator IC?
TRACO, TMH Series, Dual Output DCDC Converter
pins: 1 +Vin (power), 2 -Vin (power), 4 -Vout (power), 5 COM (power), 6 +Vout (power)

## DCDC_TRACO_TMR1_Single Output
designator IC?
TRACO, TMR 1 Series, Single Output DCDC Converter
pins: 1 -Vin (power), 2 +Vin (power), 4 +Vout (power), 5 NC, 6 -Vout (power)

## DCDC_TRACO_TMR1SM_Single Output
designator IC?
TRACO, TMR 1SM Series, Single Output DCDC Converter
pins: 1 -Vin (power), 2 ON/OFF (in), 8 +Vout (power), 9 -Vout (power), 14 +Vin (power)

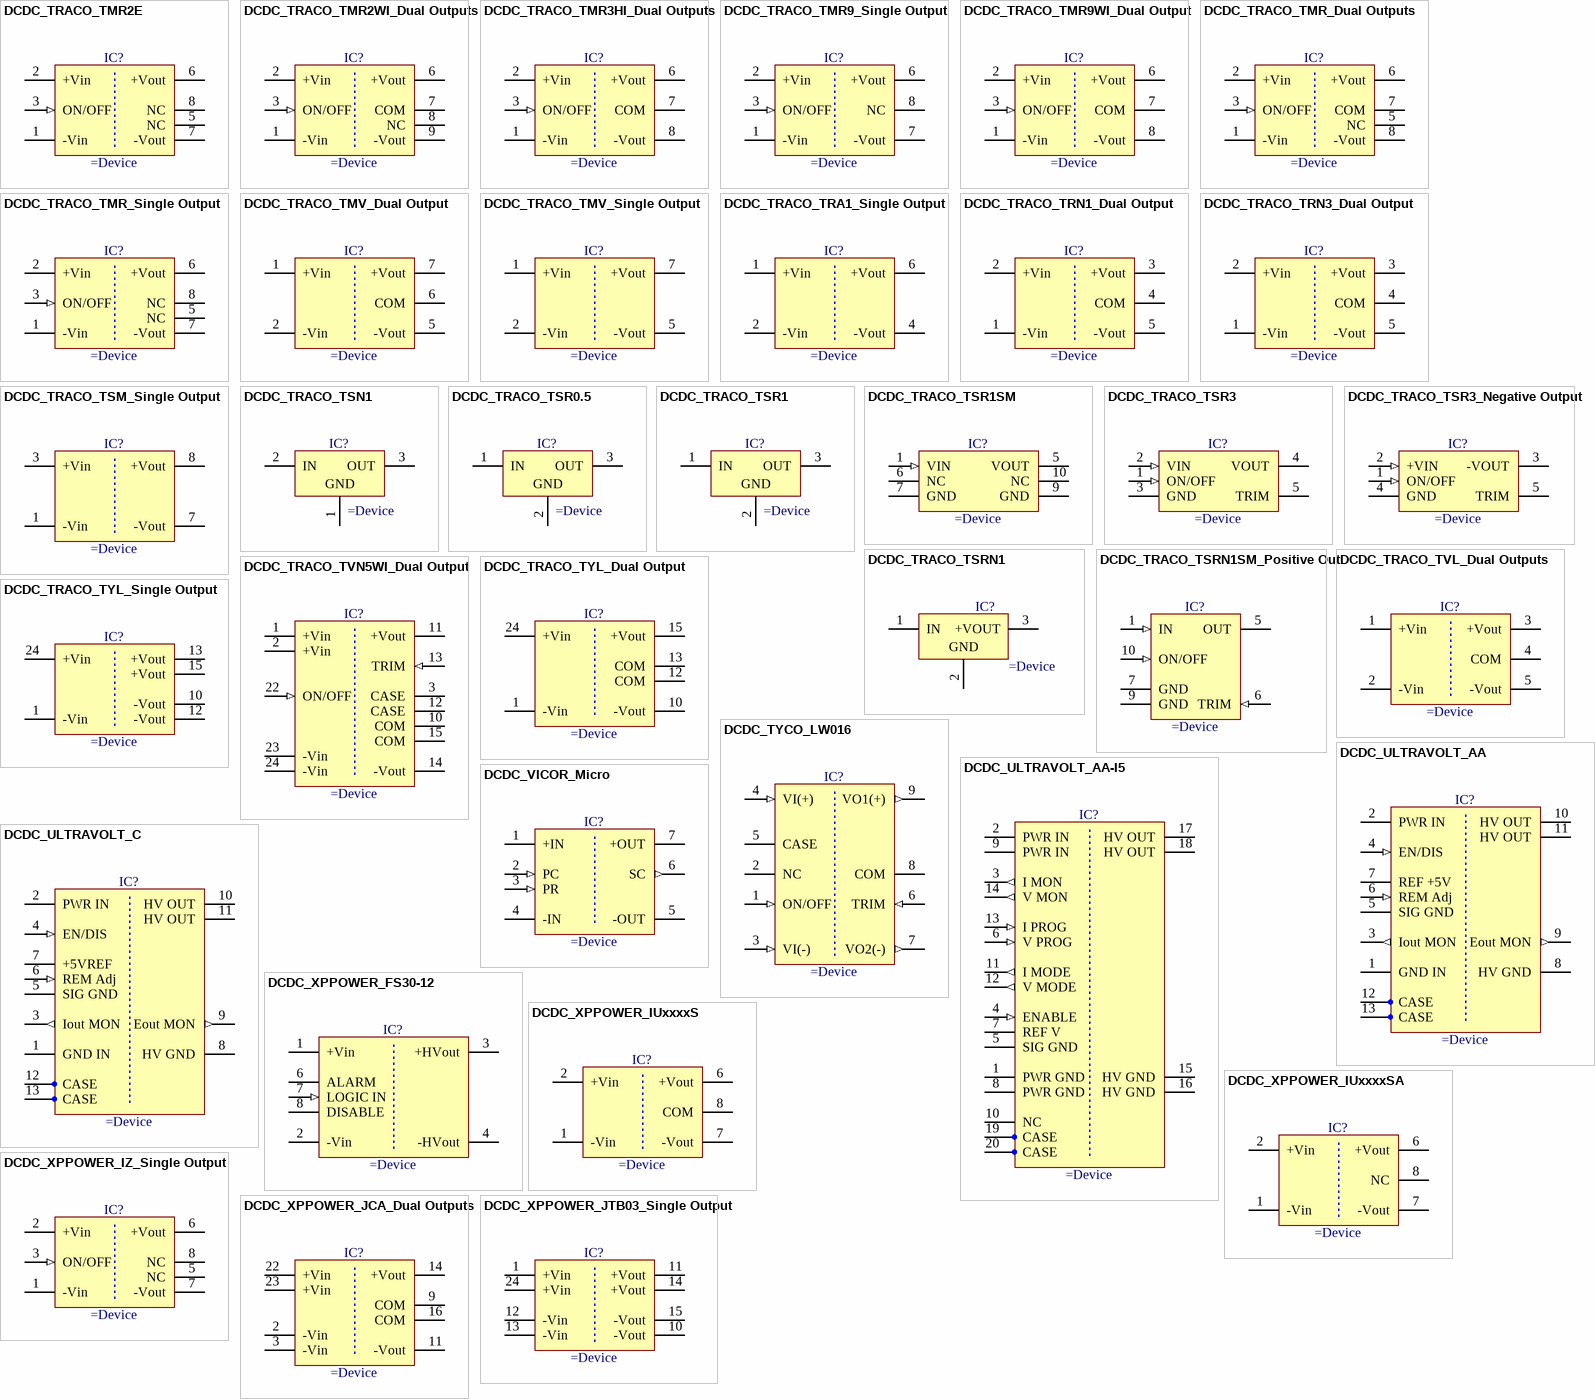
[diagram p3: symbols DCDC_TRACO_TMR2E to DCDC_XPPOWER_JTB03_Single Output]

## DCDC_TRACO_TMR2E
designator IC?
TRACO, TMR 2E Series, 2W Single Output DCDC Converter
pins: 1 -Vin (power), 2 +Vin (power), 3 ON/OFF (in), 5 NC, 6 +Vout (power), 7 -Vout (power), 8 NC

## DCDC_TRACO_TMR2WI_Dual Outputs
designator IC?
TRACO, TMR 2WI Series, Dual Output DCDC Converter
pins: 1 -Vin (power), 2 +Vin (power), 3 ON/OFF (in), 6 +Vout (power), 7 COM (power), 8 NC, 9 -Vout (power)

## DCDC_TRACO_TMR3HI_Dual Outputs
designator IC?
TRACO, TMR 3 Series, Dual Output DCDC Converter, HI Version
pins: 1 -Vin (power), 2 +Vin (power), 3 ON/OFF (in), 6 +Vout (power), 7 COM (power), 8 -Vout (power)

## DCDC_TRACO_TMR9_Single Output
designator IC?
TRACO, TMR 9 Series, Single Output DCDC Converter
pins: 1 -Vin (power), 2 +Vin (power), 3 ON/OFF (in), 6 +Vout (power), 7 -Vout (power), 8 NC

## DCDC_TRACO_TMR9WI_Dual Output
designator IC?
TRACO, TMR 9 WI Series, Dual Output DCDC Converter
pins: 1 -Vin (power), 2 +Vin (power), 3 ON/OFF (in), 6 +Vout (power), 7 COM (power), 8 -Vout (power)

## DCDC_TRACO_TMR_Dual Outputs
designator IC?
TRACO, TMR Series, Dual Output DCDC Converter
pins: 1 -Vin (power), 2 +Vin (power), 3 ON/OFF (in), 5 NC, 6 +Vout (power), 7 COM (power), 8 -Vout (power)

## DCDC_TRACO_TMR_Single Output
designator IC?
TRACO, TMR Series, Single Output DCDC Converter
pins: 1 -Vin (power), 2 +Vin (power), 3 ON/OFF (in), 5 NC, 6 +Vout (power), 7 -Vout (power), 8 NC

## DCDC_TRACO_TMV_Dual Output
designator IC?
TRACO, TMV Serie, Dual Output DCDC Converter
pins: 1 +Vin (power), 2 -Vin (power), 5 -Vout (power), 6 COM (power), 7 +Vout (power)

## DCDC_TRACO_TMV_Single Output
designator IC?
TRACO, TMV Serie, Single Output DCDC Converter
pins: 1 +Vin (power), 2 -Vin (power), 5 -Vout (power), 7 +Vout (power)

## DCDC_TRACO_TRA1_Single Output
designator IC?
TRACO, TRA1 Serie, Single Output DCDC Converter
pins: 1 +Vin (power), 2 -Vin (power), 4 -Vout (power), 6 +Vout (power)

## DCDC_TRACO_TRN1_Dual Output
designator IC?
TRACO, TRN 1 Serie, Dual Output DCDC Converter
pins: 1 -Vin (power), 2 +Vin (power), 3 +Vout (power), 4 COM (power), 5 -Vout (power)

## DCDC_TRACO_TRN3_Dual Output
designator IC?
TRACO, TRN 3 Serie, Dual Output DCDC Converter
pins: 1 -Vin (power), 2 +Vin (power), 3 +Vout (power), 4 COM (power), 5 -Vout (power)

## DCDC_TRACO_TSM_Single Output
designator IC?
TRACO, TSM Serie, Single Output DCDC Converter
pins: 1 -Vin (power), 3 +Vin (power), 7 -Vout (power), 8 +Vout (power)

## DCDC_TRACO_TSN1
designator IC?
TRACO, TSN 1 Serie, Single Output DCDC Converter
pins: 1 GND (power), 2 IN (power), 3 OUT (power)

## DCDC_TRACO_TSR0.5
designator IC?
TRACO, TSR 0.5 Serie, Single Output DCDC Converter
pins: 1 IN (power), 2 GND (power), 3 OUT (power)

## DCDC_TRACO_TSR1
designator IC?
TRACO, TSR 1 Serie, Single Output DCDC Converter
pins: 1 IN (power), 2 GND (power), 3 OUT (power)

## DCDC_TRACO_TSR1SM
designator IC?
TRACO, TSR 1 SM Serie, DCDC Converter
pins: 1 VIN (in), 5 VOUT (power), 6 NC, 7 GND (power), 9 GND (power), 10 NC

## DCDC_TRACO_TSR3
designator IC?
TRACO, TSR 3 Serie, DCDC Converter
pins: 1 ON/OFF (in), 2 VIN (in), 3 GND (power), 4 VOUT (power), 5 TRIM

## DCDC_TRACO_TSR3_Negative Output
designator IC?
TRACO, TSR 3 Series, Negative Output, DCDC Converter
pins: 1 ON/OFF (in), 2 +VIN (in), 3 -VOUT (power), 4 GND (power), 5 TRIM

## DCDC_TRACO_TSRN1
designator IC?
TRACO, TSRN 1 Serie, Switching DC/DC Converter
pins: 1 IN (power), 2 GND/-VOUT (power), 3 +VOUT/GND (power)
1 alternate drawing of the same symbol
text: +VOUT; GND

## DCDC_TRACO_TSRN1SM_Positive Out
designator IC?
1A Switching Regulator (Positive Outpout)
pins: 1 IN (in), 5 OUT (power), 6 TRIM (in), 7 GND (power), 9 GND (power), 10 ON/OFF (in)

## DCDC_TRACO_TVL_Dual Outputs
designator IC?
TRACO, TVL Series, Dual Outputs DCDC Converter
pins: 1 +Vin (power), 2 -Vin (power), 3 +Vout (power), 4 COM (power), 5 -Vout (power)

## DCDC_TRACO_TVN5WI_Dual Output
designator IC?
TRACO, TVN5 WI Series, Dual Outputs DCDC Converter
pins: 1 +Vin (power), 2 +Vin (power), 3 CASE (power), 10 COM (power), 11 +Vout (power), 12 CASE (power), 13 TRIM (in), 14 -Vout (power), 15 COM (power), 22 ON/OFF (in), 23 -Vin (power), 24 -Vin (power)

## DCDC_TRACO_TYL_Dual Output
designator IC?
TRACO, TYL Serie, Dual Output DCDC Converter
pins: 1 -Vin (power), 10 -Vout (power), 12 COM (power), 13 COM (power), 15 +Vout (power), 24 +Vin (power)

## DCDC_TRACO_TYL_Single Output
designator IC?
TRACO, TYL Serie, Single Output DCDC Converter
pins: 1 -Vin (power), 10 -Vout (power), 12 -Vout (power), 13 +Vout (power), 15 +Vout (power), 24 +Vin (power)

## DCDC_TYCO_LW016
designator IC?
LW016 Dual-Output-Series Power Modules, 36 VDC to 75 VDC Inputs, 16 W
pins: 1 ON/OFF (in) "Remote ON/OFF", 2 NC "No Connection", 3 VI(-) (in), 4 VI(+) (in), 5 CASE (power) "Case Ground Pin", 6 TRIM (in), 7 VO2(-) (out), 8 COM (power) "Common", 9 VO1(+) (out)

## DCDC_ULTRAVOLT_AA
designator IC?
ULTRAVOLT, AA Series, High Voltage DC-DC Converter
pins: 1 GND IN (power) "Input-Power Ground Return", 2 PWR IN (power) "Positive Power Input", 3 Iout MON (out) "Iout Monitor", 4 EN/DIS (in) "Enable/Disable", 5 SIG GND (power) "Signal Ground Return", 6 REM Adj (in) "Remote Adjust Input", 7 REF +5V (power) "+5VDC Reference Output", 8 HV GND (power) "HV Ground Return", 9 Eout MON (out) "Eout Monitor", 10 HV OUT (power) "HV Output", 11 HV OUT (power) "HV Output", 12 CASE "Mounting Holes Isolated from Internal Grounds by >100kΩ, .01uF/50V (Max)", 13 CASE "Mounting Holes Isolated from Internal Grounds by >100kΩ, .01uF/50V (Max)"

## DCDC_ULTRAVOLT_AA-I5
designator IC?
ULTRAVOLT, AA Series, High Voltage DC-DC Converter with Enhanced Interface
pins: 1 PWR GND (power), 2 PWR IN (power), 3 I MON (out), 4 ENABLE (in), 5 SIG GND (power), 6 V PROG (in), 7 REF V (power), 8 PWR GND (power), 9 PWR IN (power), 10 NC, 11 I MODE (out), 12 V MODE (out), 13 I PROG (in), 14 V MON (out), 15 HV GND (power), 16 HV GND (power), 17 HV OUT (power), 18 HV OUT (power), 19 CASE, 20 CASE

## DCDC_ULTRAVOLT_C
designator IC?
ULTRAVOLT, C Series, High Voltage Cap-Charging Supply DC-DC Converter
pins: 1 GND IN (power) "Input-Power Ground Return", 2 PWR IN (power) "Positive Power Input", 3 Iout MON (out) "Iout Monitor", 4 EN/DIS (in) "Enable/Disable", 5 SIG GND (power) "Signal Ground Return", 6 REM Adj (in) "Remote Adjust Input", 7 +5VREF (power) "+5VDC Reference Output", 8 HV GND (power) "HV Ground Return", 9 Eout MON (out) "Eout Monitor", 10 HV OUT (power) "HV Output", 11 HV OUT (power) "HV Output", 12 CASE "Mounting Holes Isolated from Internal Grounds by >100kΩ, .01uF/50V (Max)", 13 CASE "Mounting Holes Isolated from Internal Grounds by >100kΩ, .01uF/50V (Max)"

## DCDC_VICOR_Micro
designator IC?
VICOR, Micro Family DCDC Converter
pins: 1 +IN (power), 2 PC (in), 3 PR (in), 4 -IN (power), 5 -OUT (power), 6 SC (out), 7 +OUT (power)

## DCDC_XPPOWER_FS30-12
designator IC?
12V to 0-3kV, Iout 3.33mA, 10W DC To HV DC Converters
pins: 1 +Vin (power) "Positive Power Input", 2 -Vin (power) "Input-Power Ground Return", 3 +HVout (power) "HV Output", 4 -HVout (power) "HV Ground Return", 6 ALARM (power) "+5VDC Reference Output", 7 LOGIC IN (in) "Remote Adjust Input", 8 DISABLE (power) "Signal Ground Return"

## DCDC_XPPOWER_IUxxxxS
designator IC?
XP POWER , IZ Series SIP Version, Dual Output, Without Remote On/Off Option, DCDC Converter
pins: 1 -Vin (power), 2 +Vin (power), 6 +Vout (power), 7 -Vout (power), 8 COM (power)

## DCDC_XPPOWER_IUxxxxSA
designator IC?
XP POWER , IZ Series SIP Version, Single Output, Without Remote On/Off Option, DCDC Converter
pins: 1 -Vin (power), 2 +Vin (power), 6 +Vout (power), 7 -Vout (power), 8 NC (power)

## DCDC_XPPOWER_IZ_Single Output
designator IC?
XP POWER , IZ Series, Single Output DCDC Converter
pins: 1 -Vin (power), 2 +Vin (power), 3 ON/OFF (in), 5 NC (power), 6 +Vout (power), 7 -Vout (power), 8 NC (power)

## DCDC_XPPOWER_JCA_Dual Outputs
designator IC?
XP POWER, JCA Series, Dual Outputs DCDC Converter
pins: 2 -Vin (power), 3 -Vin (power), 9 COM (power), 11 -Vout (power), 14 +Vout (power), 16 COM (power), 22 +Vin (power), 23 +Vin (power)

## DCDC_XPPOWER_JTB03_Single Output
designator IC?
XP POWER, JTB03 Serie, Single Output DCDC Converter
pins: 1 +Vin (power), 10 -Vout (power), 11 +Vout (power), 12 -Vin (power), 13 -Vin (power), 14 +Vout (power), 15 -Vout (power), 24 +Vin (power)